# Altium footprint library Driver.PcbLib: 4 footprints
Each footprint in its own frame and in the unit in brackets; x right, y up, seen from the top. Pads: shape width x height; smd on the part's side, far side on the other; paste and mask are expansions set on the pad; w line width, h text height; cw(c..) or ccw(c..) is an arc to the next point about the centre after c.
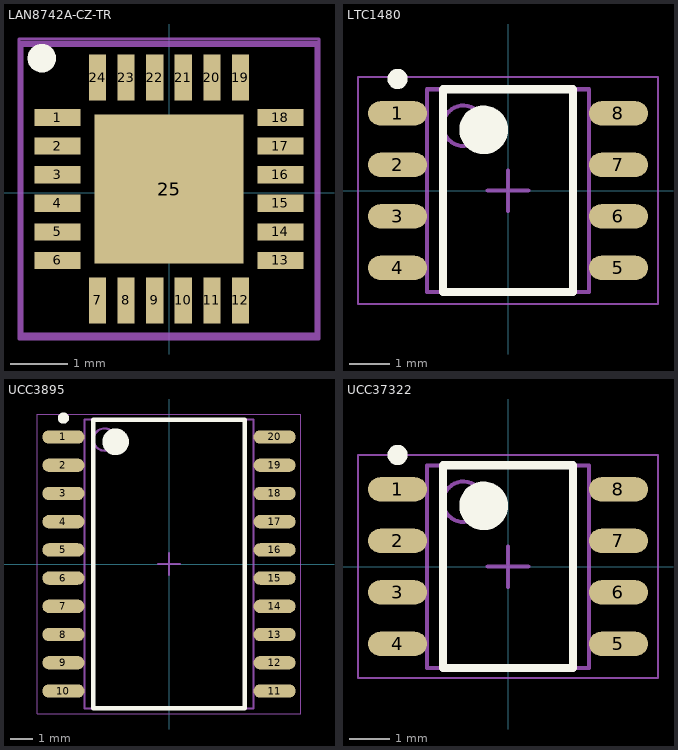
[diagram p0: the footprints below, top view; thin cyan lines are the x and y axes]

## LAN8742A-CZ-TR [mm] "10/100 Base-T/TX Ethernet Transceiver with Cable Diagnostics"
height 3
pads (25):
  rect 0.8x0.3 smd mask+0.1: 1(-1.95,1.311)
  rect 0.8x0.3 smd: 2(-1.95,0.811) 3(-1.95,0.311) 4(-1.95,-0.189) 5(-1.95,-0.689) 6(-1.95,-1.189) 13(1.95,-1.189) 14(1.95,-0.689) 15(1.95,-0.189) 16(1.95,0.311) 17(1.95,0.811) 18(1.95,1.311)
  rect 0.3x0.8 smd: 7(-1.25,-1.889) 8(-0.75,-1.889) 9(-0.25,-1.889) 10(0.25,-1.889) 11(0.75,-1.889) 12(1.25,-1.889) 19(1.25,2.011) 20(0.75,2.011) 21(0.25,2.011) 22(-0.25,2.011) 23(-0.75,2.011) 24(-1.25,2.011)
  rrect0% 2.6x2.6 smd: 25(0,0.061)
Top Overlay:
  circle w0.25: c-2.225,2.35 r0.125
Mechanical 15:
  lines w0.1: -2.6,-2.5 -2.6,2.6 2.6,2.6 2.6,-2.5 -2.6,-2.5
Mechanical 20:
  lines w0.05: -2.625,-2.564 -2.625,2.686 2.625,2.686 2.625,-2.564 -2.625,-2.564
3D body "LAN8742A-CZ-TR.stp": height 1, standoff 0, extent -2.05,-2 2.05,2.1

## LTC1480 [mm] "RS485 / 232 low power driver"
height 1.76
pads (8):
  oval 1.45x0.6 smd: 1(-2.725,1.905) 2(-2.725,0.635) 3(-2.725,-0.635) 4(-2.725,-1.905) 5(2.725,-1.905) 6(2.725,-0.635) 7(2.725,0.635) 8(2.725,1.905)
Top Overlay:
  circle w0.25: c-2.725,2.755 r0.125
  circle w0.6: c-0.6,1.5 r0.3
  lines w0.2: -1.6,-2.5 -1.6,2.5 1.6,2.5 1.6,-2.5 -1.6,-2.5
Mechanical 13:
  circle w0.1: c-1.1,1.6 r0.5
  lines w0.1: -2,-2.5 -2,2.5 2,2.5 2,-2.5 -2,-2.5
Mechanical 15:
  lines w0.05: -3.7,-2.8 -3.7,2.8 3.7,2.8 3.7,-2.8 -3.7,-2.8
  lines w0.1: -0.5,0 0.5,0 ; 0,-0.5 0,0.5
3D body "LTC1480-1.step": height 1.75, standoff 0, extent -2.997,-2.5 2.997,2.5

## UCC3895 [mm] "BiCMOS Advanced Phase-Shift PWM Controller"
height 2.65
pads (20):
  oval 1.9x0.6 smd: 1(-4.75,5.715) 2(-4.75,4.445) 3(-4.75,3.175) 4(-4.75,1.905) 5(-4.75,0.635) 6(-4.75,-0.635) 7(-4.75,-1.905) 8(-4.75,-3.175) 9(-4.75,-4.445) 10(-4.75,-5.715) 11(4.75,-5.715) 12(4.75,-4.445) 13(4.75,-3.175) 14(4.75,-1.905) 15(4.75,-0.635) 16(4.75,0.635) 17(4.75,1.905) 18(4.75,3.175) 19(4.75,4.445) 20(4.75,5.715)
Top Overlay:
  circle w0.25: c-4.75,6.565 r0.125
  circle w0.6: c-2.4,5.5 r0.3
  lines w0.2: -3.4,-6.5 -3.4,6.5 3.4,6.5 3.4,-6.5 -3.4,-6.5
Mechanical 13:
  circle w0.1: c-2.9,5.6 r0.5
  lines w0.1: -3.8,-6.5 -3.8,6.5 3.8,6.5 3.8,-6.5 -3.8,-6.5
Mechanical 15:
  lines w0.05: -5.925,-6.75 -5.925,6.75 5.925,6.75 5.925,-6.75 -5.925,-6.75
  lines w0.1: -0.5,0 0.5,0 ; 0,-0.5 0,0.5
3D body "UCC3895.step": height 2.65, standoff 0, extent -5.15,-6.5 5.15,6.5

## UCC37322 [mm] "MOSFET Driver Single, Low Side"
height 1.75
pads (8):
  oval 1.45x0.6 smd: 1(-2.725,1.905) 2(-2.725,0.635) 3(-2.725,-0.635) 4(-2.725,-1.905) 5(2.725,-1.905) 6(2.725,-0.635) 7(2.725,0.635) 8(2.725,1.905)
Top Overlay:
  circle w0.6: c-0.6,1.5 r0.3
  circle w0.25: c-2.725,2.755 r0.125
  lines w0.2: -1.6,-2.5 1.6,-2.5 1.6,2.5 -1.6,2.5 -1.6,-2.5
Mechanical 13:
  circle w0.1: c-1.1,1.6 r0.5
  lines w0.1: -2,-2.5 2,-2.5 2,2.5 -2,2.5 -2,-2.5
Mechanical 15:
  lines w0.05: -3.7,-2.75 3.7,-2.75 3.7,2.75 -3.7,2.75 -3.7,-2.75
  lines w0.1: -0.5,0 0.5,0 ; 0,-0.5 0,0.5
3D body "UCC37322.step": height 1.75, standoff 0, extent -3,-2.5 3,2.5